# EAGLE library part ISL94203 (library everykey)
Intersil multicell (3-8) LiIon/LiPo battery manager / monitor / balancer
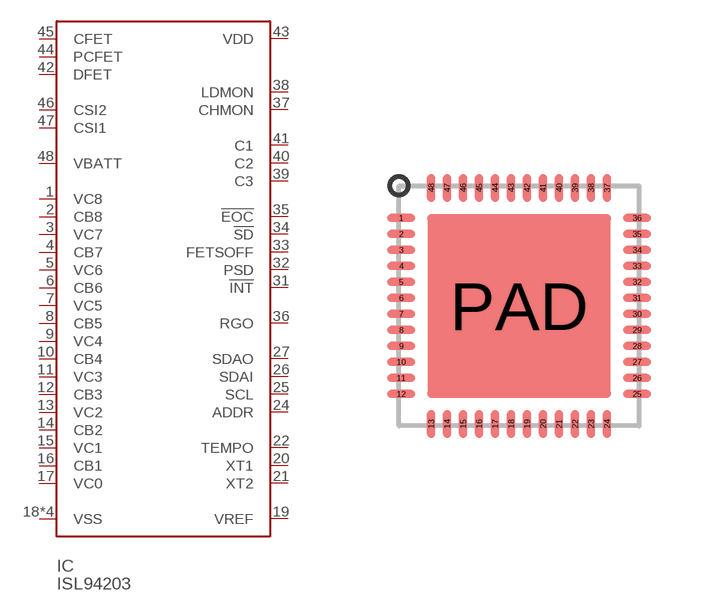
[diagram p71: symbol with the pads of QFN48_0.4_EP; footprint QFN48_0.4_EP]

Designator prefix IC

## ISL94203  [QFN48_0.4_EP]
1  VC8  in
2  CB8  out
3  VC7  in
4  CB7  out
5  VC6  in
6  CB6  out
7  VC5  in
8  CB5  out
9  VC4  in
10  CB4  out
11  VC3  in
12  CB3  out
13  VC2  in
14  CB2  out
15  VC1  in
16  CB1  out
17  VC0  in
18  VSS  pwr
19  VREF  out
20  XT1  in
21  XT2  in
22  TEMPO  out
24  ADDR  in
25  SCL  in
26  SDAI  in
27  SDAO
28  VSS  pwr
29  VSS  pwr
31  !INT  out
32  PSD  out
33  FETSOFF  in
34  !SD  out
35  !EOC  out
36  RGO  out
37  CHMON  in
38  LDMON  in
39  C3
40  C2
41  C1
42  DFET  out
43  VDD  pwr
44  PCFET  out
45  CFET  out
46  CSI2  in
47  CSI1  in
48  VBATT  in
PAD  VSS  pwr

## Footprint QFN48_0.4_EP (pad centres in mm)
smd 0.7 x 0.2: 1 -2.95,2.2; 2 -2.95,1.8; 3 -2.95,1.4; 4 -2.95,1; 5 -2.95,0.6; 6 -2.95,0.2; 7 -2.95,-0.2; 8 -2.95,-0.6; 9 -2.95,-1; 10 -2.95,-1.4; 11 -2.95,-1.8; 12 -2.95,-2.2; 25 2.95,-2.2; 26 2.95,-1.8; 27 2.95,-1.4; 28 2.95,-1; 29 2.95,-0.6; 30 2.95,-0.2; 31 2.95,0.2; 32 2.95,0.6; 33 2.95,1; 34 2.95,1.4; 35 2.95,1.8; 36 2.95,2.2
smd 0.2 x 0.7: 13 -2.2,-2.95; 14 -1.8,-2.95; 15 -1.4,-2.95; 16 -1,-2.95; 17 -0.6,-2.95; 18 -0.2,-2.95; 19 0.2,-2.95; 20 0.6,-2.95; 21 1,-2.95; 22 1.4,-2.95; 23 1.8,-2.95; 24 2.2,-2.95; 37 2.2,2.95; 38 1.8,2.95; 39 1.4,2.95; 40 1,2.95; 41 0.6,2.95; 42 0.2,2.95; 43 -0.2,2.95; 44 -0.6,2.95; 45 -1,2.95; 46 -1.4,2.95; 47 -1.8,2.95; 48 -2.2,2.95
smd 4.6 x 4.6: PAD 0,0